# Altium footprint library SysP18_Robi.PcbLib: 1 footprints
Each footprint in its own frame and in the unit in brackets; x right, y up, seen from the top. Pads: shape width x height; smd on the part's side, far side on the other; paste and mask are expansions set on the pad; w line width, h text height; cw(c..) or ccw(c..) is an arc to the next point about the centre after c.
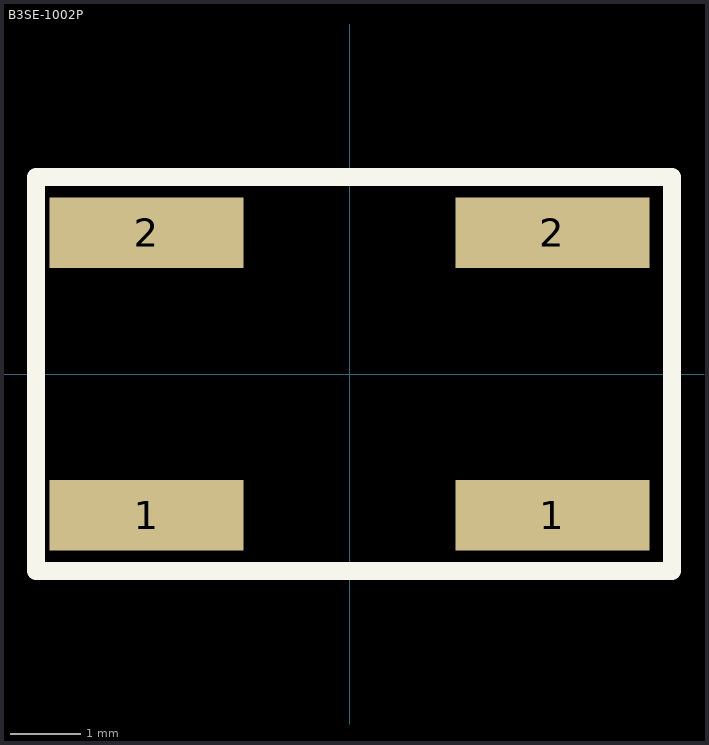
[diagram p0: the footprint, top view; thin cyan lines are the x and y axes]

## B3SE-1002P [mm]
pads (4):
  rect 2.75x1 smd: 1(-2.875,-2) 1(2.875,-2) 2(-2.875,2) 2(2.875,2)
Top Overlay:
  lines w0.254: -4.445,-2.794 -4.445,2.794 4.572,2.794 4.572,-2.794 -4.445,-2.794